# EAGLE library part FPC_16_0.5MM (library New_Parts_Connectors)
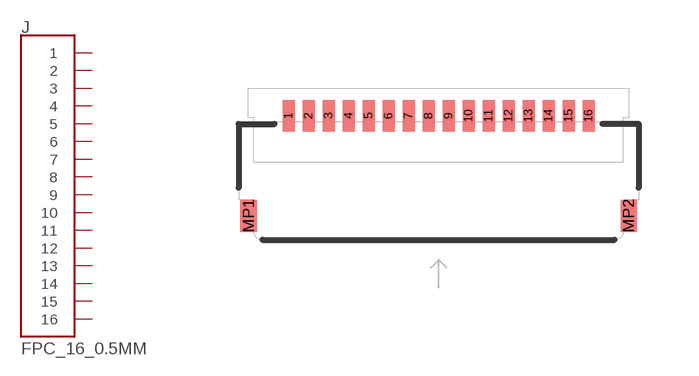
[diagram p2: symbol with the pads of FPC_16_DOUBLESIDED_BACKFLIP; footprint FPC_16_DOUBLESIDED_BACKFLIP]

Designator prefix J

## FPC_16_0.5MM_BACKFLIP (ATOM_PART: FPC05016-42201)  [FPC_16_DOUBLESIDED_BACKFLIP]
1  1
2  2
3  3
4  4
5  5
6  6
7  7
8  8
9  9
10  10
11  11
12  12
13  13
14  14
15  15
16  16

## Footprint FPC_16_DOUBLESIDED_BACKFLIP (pad centres in mm)
smd 0.3 x 0.8: 1 -3.75,1.35; 2 -3.25,1.35; 3 -2.75,1.35; 4 -2.25,1.35; 5 -1.75,1.35; 6 -1.25,1.35; 7 -0.75,1.35; 8 -0.25,1.35; 9 0.25,1.35; 10 0.75,1.35; 11 1.25,1.35; 12 1.75,1.35; 13 2.25,1.35; 14 2.75,1.35; 15 3.25,1.35; 16 3.75,1.35
smd 0.4 x 0.8: MP1 -4.75,-1.15; MP2 4.75,-1.15